# Altium integrated library TI Power Management Step-Down Regulator.IntLib: 565 symbols (part 4 of 33)
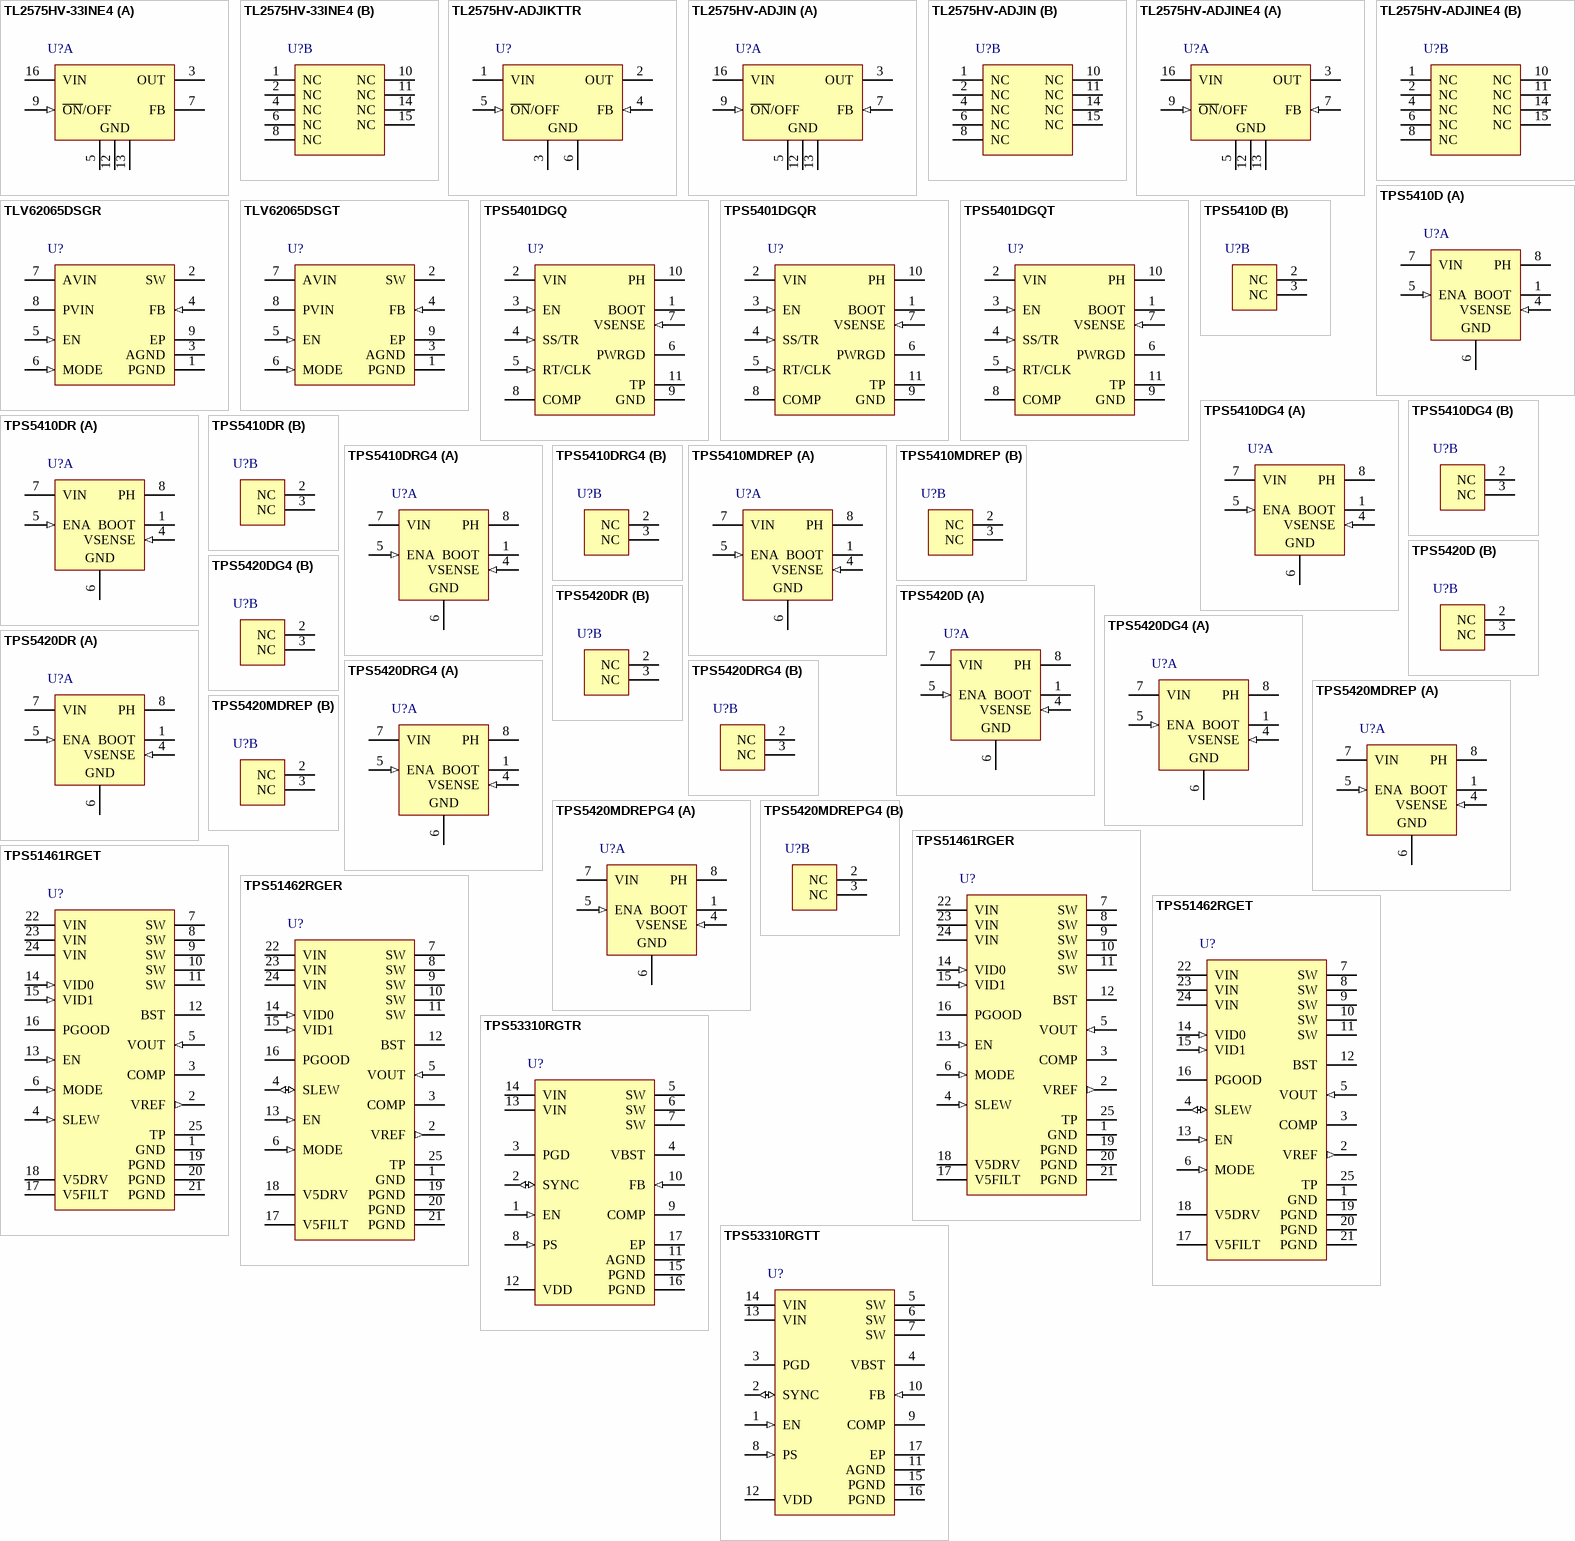
[diagram p22: symbols TL2575HV-33INE4 to TPS53310RGTT]

## TPS51462RGET
designator U?
D-CAP+Mode Step Down Regulator with 3.3 to 5 V Input and 0.5 to 2 V Output, -40 to 85 degC, 24-Pin VQFN (RGE), Green (RoHS & no Sb/Br); Manufacturer: Texas Instruments; PartNumber: TPS51462RGET; Duty Cycle(Max)(%): 84; Iout(Max)(A): 6; Rating: Catalog; Regulated Outputs(#): 1; SubFamily: Step-Down Regulator; Switch Current Limit(Typ)(A): 7.5; Vin(Max)(V): 5; Vin(Min)(V): 3.3; Vout(Max)(V): 2; Vout(Min)(V): 0.5; DatasheetVersion: SLUSAQ1; PackageVersion: revG, Jul-2011; PackageReference: RGE24-2100X2100TP; PackageDescription: 24-Pin Plastic Quad Flatpack No-Lead, 4 x 4 mm Body, 0.5 mm Pitch; Supplier 1: Digi-Key; Supplier Part Number 1: 296-30188-2-ND; Supplier 7: Mouser; Supplier Part Number 7: 595-TPS51462RGET; Eco-Plan: Green (RoHS & no Sb/Br); Topology: D-CAP+Mode; Mounting Technology: Surface Mount; Code_JEDEC: MO-220; ComponentLink1Description: Datasheet; ComponentLink1URL: http://www.ti.com/general/docs/lit/getliterature.tsp?genericPartNumber=TPS51462&fileType=pdf; ComponentLink2Description: Package Specification; ComponentLink2URL: http://www.ti.com/litv/pdf/mpqf124f; ComponentLink3Description: URL Link1; ComponentLink3URL: Samples URL:http://www.ti.com/product/tps54611#samples
footprint RGE24-2100X2100TP (QFN, 24-Leads, Body 4x4mm, Pitch 0.5mm, Thermal Pad 2.1x2.1mm, TI Recommended)
pins: 1 GND (power) "Power ground. Source terminal of the rectifying low-side power FET.", 2 VREF (out) "2.0-V reference output. Connect a 0.22-uF ceramic capacitor to GND.", 3 COMP "Connect series R-C to the VREF pin for loop compensation.", 4 SLEW (io) "Program the startup and voltage transition time using an external capacitor via 10-uA current source.", 5 VOUT (in) "Output voltage monitor input pin.", 6 MODE (in) "Allows selection of switching frequencies and output voltage. (See Table 3)", 7 SW (power) "Switching node output. Connect to the external inductor.", 8 SW (power) "Switching node output. Connect to the external inductor.", 9 SW (power) "Switching node output. Connect to the external inductor.", 10 SW (power) "Switching node output. Connect to the external inductor.", 11 SW (power) "Switching node output. Connect to the external inductor.", 12 BST (power) "Power supply for internal high-side gate driver. Connect a 0.1-uF bootstrap capacitor between this pin and the SW pin.", 13 EN (in) "Enable of the SMPS.", 14 VID0 (in) "2-bit VID input.", 15 VID1 (in) "2-bit VID input.", 16 PGOOD (oc) "Power good output. Connect pull-up resistor.", 17 V5FILT (power) "5-V power supply for analog circuits.", 18 V5DRV (power) "5-V power supply for the gate driver.", 19 PGND (power) "Power ground. Source terminal of the rectifying low-side power FET.", 20 PGND (power) "Power ground. Source terminal of the rectifying low-side power FET.", 21 PGND (power) "Power ground. Source terminal of the rectifying low-side power FET.", 22 VIN (power) "Power supply input pin. Drain terminal of the switching high-side power FET.", 23 VIN (power) "Power supply input pin. Drain terminal of the switching high-side power FET.", 24 VIN (power) "Power supply input pin. Drain terminal of the switching high-side power FET.", 25 TP (power) "Connect directly to system GND plane with multiple vias."

## TPS53310RGTR
designator U?
Buck Step Down Regulator with 2.9 to 6 V Input and 0.6 to 4.2 V Output, -40 to 85 degC, 16-Pin QFN (RGT), Green (RoHS & no Sb/Br); Manufacturer: Texas Instruments; PartNumber: TPS53310RGTR; Duty Cycle(Max)(%): 84; Iout(Max)(A): 3; Rating: Catalog; Regulated Outputs(#): 1; SubFamily: Step-Down Regulator; Switch Current Limit(Typ)(A): 4.2; Vin(Max)(V): 6; Vin(Min)(V): 2.9; Vout(Min)(V): 0.6; DatasheetVersion: SLUSA68; PackageVersion: revH, Oct-2011; PackageReference: RGT16-1650X1650TP; PackageDescription: 16-Pin Plastic Quad Flat No-Lead, 3 x 3 mm Body, 0.5 mm Pitch, 1.7 x 1.7 mm Exposed Pad; Supplier 1: Digi-Key; Supplier Part Number 1: TPS53310RGTR-ND; Eco-Plan: Green (RoHS & no Sb/Br); Topology: Buck; Vout(Max)(V): 4.2; Mounting Technology: Surface Mount; Code_JEDEC: MO-220; ComponentLink1Description: Datasheet; ComponentLink1URL: http://www.ti.com/general/docs/lit/getliterature.tsp?genericPartNumber=TPS53310&fileType=pdf; ComponentLink2Description: Package Specification; ComponentLink2URL: http://www.ti.com/litv/pdf/mpqf119g; ComponentLink3Description: URL Link1; ComponentLink3URL: Samples URL:http://www.ti.com/product/tps53310#samples
footprint RGT16-1650X1650TP (QFN, 16-Leads, Body 3x3mm, Pitch 0.5mm, Thermal Pad 1.7x1.7mm, TI Recommended)
pins: 1 EN (in) "Enable. Internally pulled up to VDD with a 1.35-Mohm resistor.", 2 SYNC (io) "Synchronization signal for input interleaving. Master SYNC pin sends out 180degrees out-of-phase signal to slave SYNC. SYNC frequency must be within +/-20% of slave nominal frequency.", 3 PGD (oc) "Power good output flag. Open drain output. Pull up to an external rail via a resistor.", 4 VBST (power) "Supply input for high-side MOSFET (bootstrap terminal). Connect capacitor from this pin to SW terminal.", 5 SW (power) "Output inductor connection to integrated power devices.", 6 SW (power) "Output inductor connection to integrated power devices.", 7 SW (power) "Output inductor connection to integrated power devices.", 8 PS (in) "Mode configuration pin (with 10 µA current): Connecting to ground: Forced CCM slave. Pulled high or floating (internal pulled high): Forced CCM master, Connect with 24.3 k ohm to GND: DE slave, Connect with 57.6 k ohm to (See Datasheet)", 9 COMP "Error amplifier compensation terminal. Type III compensation method is recommended for stability.", 10 FB (in) "Voltage feedback. Also used for OVP, UVP and PGD determination.", 11 AGND (power) "Device analog ground terminal.", 12 VDD (power) "Input bias supply for analog functions.", 13 VIN (power) "Gate driver supply and power conversion voltage.", 14 VIN (power) "Gate driver supply and power conversion voltage.", 15 PGND (power) "Power ground terminal.", 16 PGND (power) "Power ground terminal.", 17 EP (power) "Exposed Thermal Pad."

## TPS53310RGTT
designator U?
Buck Step Down Regulator with 2.9 to 6 V Input and 0.6 to 4.2 V Output, -40 to 85 degC, 16-Pin QFN (RGT), Green (RoHS & no Sb/Br); Manufacturer: Texas Instruments; PartNumber: TPS53310RGTT; Duty Cycle(Max)(%): 84; Iout(Max)(A): 3; Rating: Catalog; Regulated Outputs(#): 1; SubFamily: Step-Down Regulator; Switch Current Limit(Typ)(A): 4.2; Vin(Max)(V): 6; Vin(Min)(V): 2.9; Vout(Min)(V): 0.6; DatasheetVersion: SLUSA68; PackageVersion: revH, Oct-2011; PackageReference: RGT16-1650X1650TP; PackageDescription: 16-Pin Plastic Quad Flat No-Lead, 3 x 3 mm Body, 0.5 mm Pitch, 1.7 x 1.7 mm Exposed Pad; Supplier 1: Digi-Key; Supplier Part Number 1: 296-28100-2-ND; Eco-Plan: Green (RoHS & no Sb/Br); Topology: Buck; Vout(Max)(V): 4.2; Mounting Technology: Surface Mount; Code_JEDEC: MO-220; ComponentLink1Description: Datasheet; ComponentLink1URL: http://www.ti.com/general/docs/lit/getliterature.tsp?genericPartNumber=TPS53310&fileType=pdf; ComponentLink2Description: Package Specification; ComponentLink2URL: http://www.ti.com/litv/pdf/mpqf119g; ComponentLink3Description: URL Link1; ComponentLink3URL: Samples URL:http://www.ti.com/product/tps54611#samples
footprint RGT16-1650X1650TP (QFN, 16-Leads, Body 3x3mm, Pitch 0.5mm, Thermal Pad 1.7x1.7mm, TI Recommended)
pins: 1 EN (in) "Enable. Internally pulled up to VDD with a 1.35-Mohm resistor.", 2 SYNC (io) "Synchronization signal for input interleaving. Master SYNC pin sends out 180degrees out-of-phase signal to slave SYNC. SYNC frequency must be within +/-20% of slave nominal frequency.", 3 PGD (oc) "Power good output flag. Open drain output. Pull up to an external rail via a resistor.", 4 VBST (power) "Supply input for high-side MOSFET (bootstrap terminal). Connect capacitor from this pin to SW terminal.", 5 SW (power) "Output inductor connection to integrated power devices.", 6 SW (power) "Output inductor connection to integrated power devices.", 7 SW (power) "Output inductor connection to integrated power devices.", 8 PS (in) "Mode configuration pin (with 10 µA current): Connecting to ground: Forced CCM slave. Pulled high or floating (internal pulled high): Forced CCM master, Connect with 24.3 k ohm to GND: DE slave, Connect with 57.6 k ohm to (See Datasheet)", 9 COMP "Error amplifier compensation terminal. Type III compensation method is recommended for stability.", 10 FB (in) "Voltage feedback. Also used for OVP, UVP and PGD determination.", 11 AGND (power) "Device analog ground terminal.", 12 VDD (power) "Input bias supply for analog functions.", 13 VIN (power) "Gate driver supply and power conversion voltage.", 14 VIN (power) "Gate driver supply and power conversion voltage.", 15 PGND (power) "Power ground terminal.", 16 PGND (power) "Power ground terminal.", 17 EP (power) "Exposed Thermal Pad."

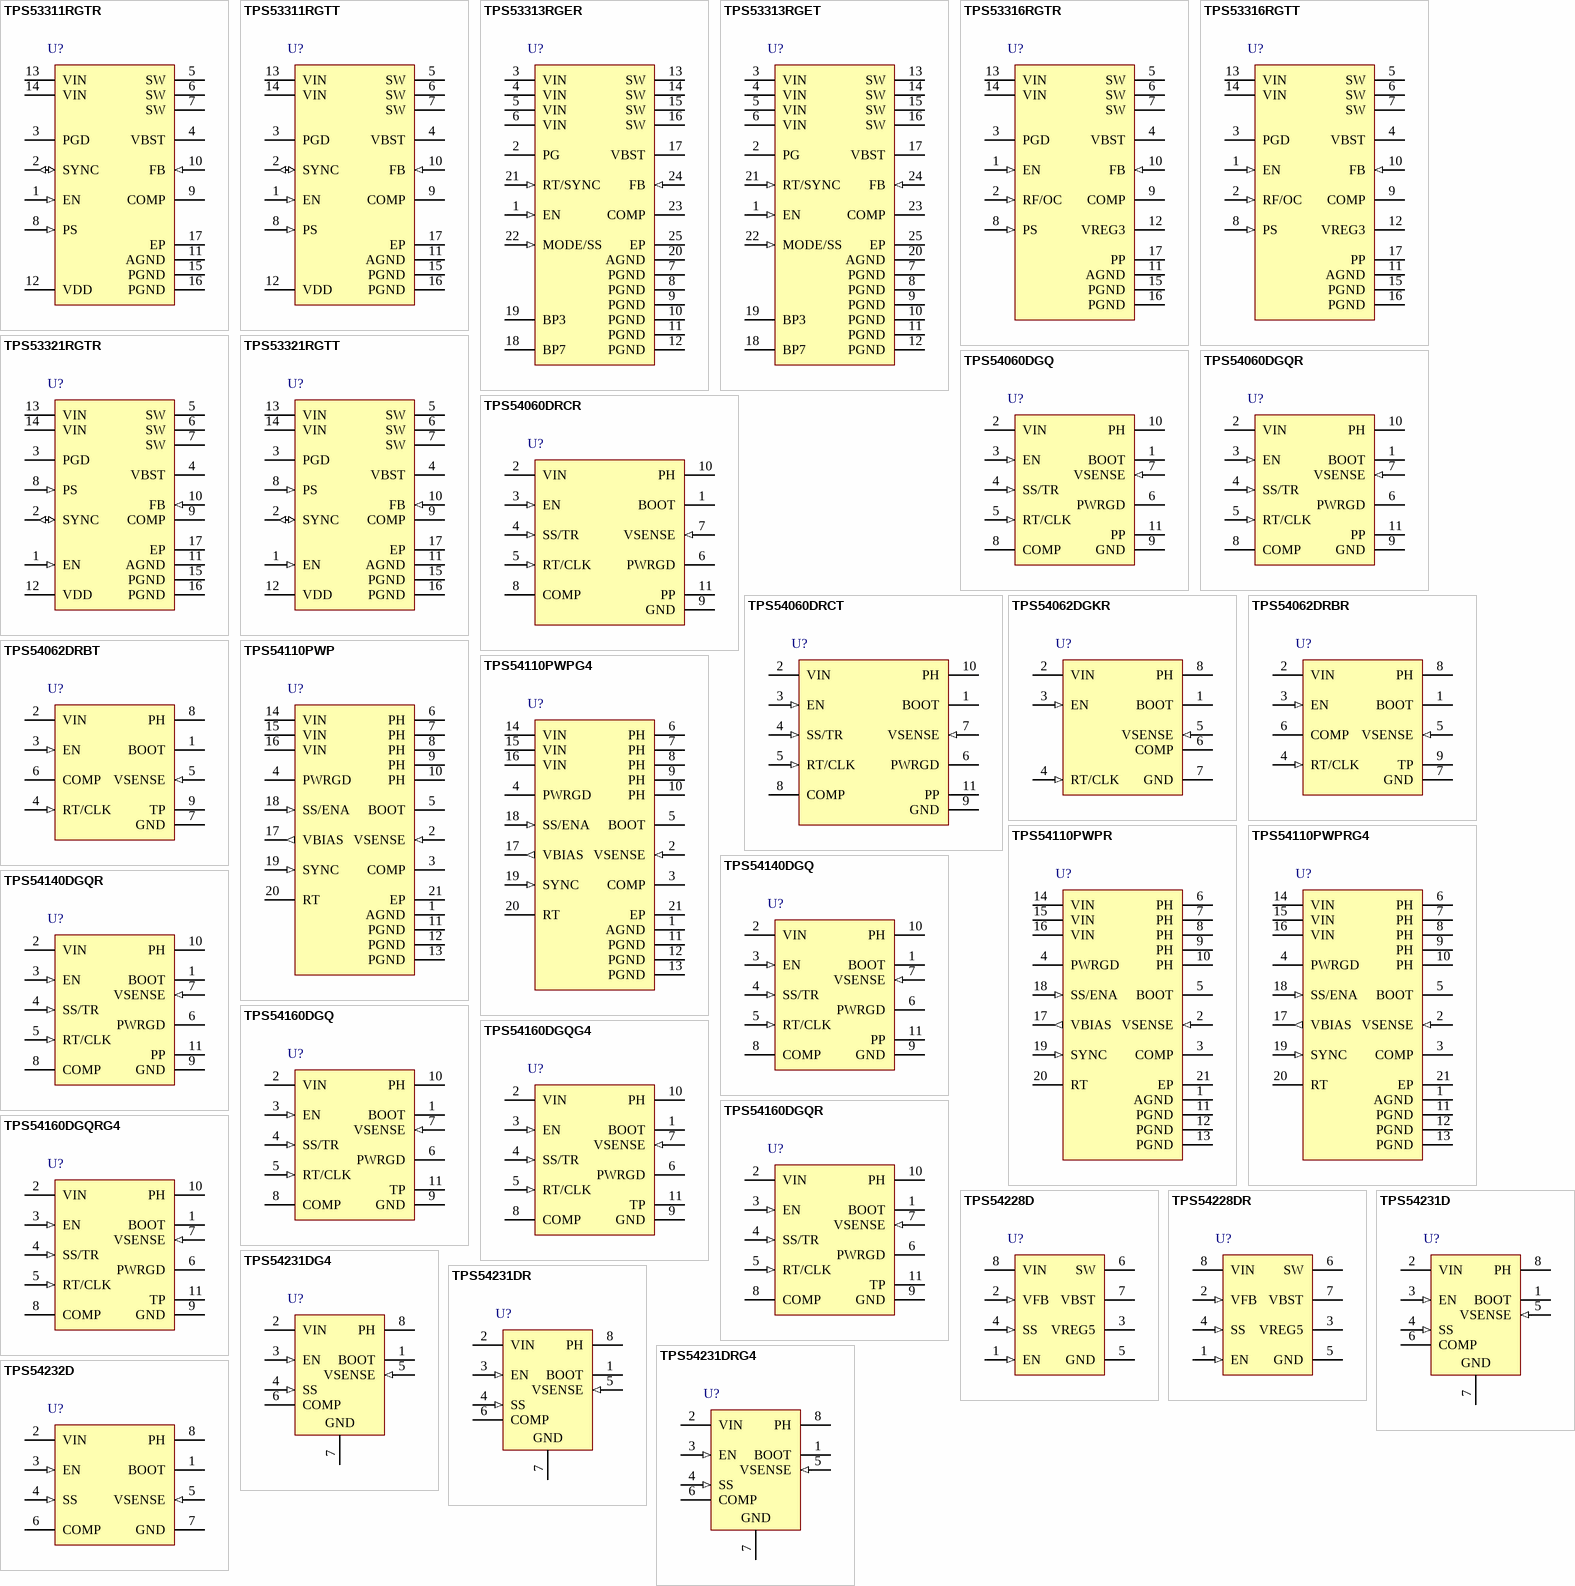
[diagram p3: symbols TPS53311RGTR to TPS54232D]

## TPS53311RGTR
designator U?
Buck Step Down Regulator with 2.9 to 6 V Input and 0.6 to 4.2 V Output, -40 to 85 degC, 16-Pin QFN (RGT), Green (RoHS & no Sb/Br); Manufacturer: Texas Instruments; PartNumber: TPS53311RGTR; Duty Cycle(Max)(%): 84; Iout(Max)(A): 3; Rating: Catalog; Regulated Outputs(#): 1; SubFamily: Step-Down Regulator; Switch Current Limit(Typ)(A): 4.2; Vin(Max)(V): 6; Vin(Min)(V): 2.9; Vout(Min)(V): 0.6; DatasheetVersion: SLUSA41A; PackageVersion: revH, Oct-2011; PackageReference: RGT16-1650X1650TP; PackageDescription: 16-Pin Plastic Quad Flat No-Lead, 3 x 3 mm Body, 0.5 mm Pitch, 1.7 x 1.7 mm Exposed Pad; Supplier 1: Digi-Key; Supplier Part Number 1: TPS53311RGTR-ND; Eco-Plan: Green (RoHS & no Sb/Br); Topology: Buck; Vout(Max)(V): 4.2; Mounting Technology: Surface Mount; Code_JEDEC: MO-220; ComponentLink1Description: Datasheet; ComponentLink1URL: http://www.ti.com/general/docs/lit/getliterature.tsp?genericPartNumber=TPS53311&fileType=pdf; ComponentLink2Description: Package Specification; ComponentLink2URL: http://www.ti.com/litv/pdf/mpqf119g; ComponentLink3Description: URL Link1; ComponentLink3URL: Samples URL:http://www.ti.com/product/tps53311#samples
footprint RGT16-1650X1650TP (QFN, 16-Leads, Body 3x3mm, Pitch 0.5mm, Thermal Pad 1.7x1.7mm, TI Recommended)
pins: 1 EN (in) "Enable. Internally pulled up to VDD with a 1.35-Mohm resistor.", 2 SYNC (io) "Synchronization signal for input interleaving. Master SYNC pin sends out 180degrees out-of-phase signal to slave SYNC.SYNC frequency must be within +/-20% of slave nominal frequency.", 3 PGD (oc) "Power good output flag. Open drain output. Pull up to an external rail via a resistor.", 4 VBST (power) "Supply input for high-side MOSFET (bootstrap terminal). Connect capacitor from this pin to SW terminal.", 5 SW (power) "Output inductor connection to integrated power devices.", 6 SW (power) "Output inductor connection to integrated power devices.", 7 SW (power) "Output inductor connection to integrated power devices.", 8 PS (in) "Mode configuration pin (with 10 uA current): Connecting to ground: Forced CCM slave Pulled high or floating (internal pulled high): Forced CCM master Connect with 24.3 k ohm to GND: DE slave Connect with 57.6 k ohm to GND: (See Datasheet)", 9 COMP "Error amplifier compensation terminal. Type III compensation method is recommended for stability.", 10 FB (in) "Voltage feedback. Also used for OVP, UVP and PGD determination.", 11 AGND (power) "Device analog ground terminal.", 12 VDD (power) "Input bias supply for analog functions.", 13 VIN (power) "Gate driver supply and power conversion voltage.", 14 VIN (power) "Gate driver supply and power conversion voltage.", 15 PGND (power) "IC power GND terminal.", 16 PGND (power) "IC power GND terminal.", 17 EP (power) "Exposed pad"

## TPS53311RGTT
designator U?
Buck Step Down Regulator with 2.9 to 6 V Input and 0.6 to 4.2 V Output, -40 to 85 degC, 16-Pin QFN (RGT), Green (RoHS & no Sb/Br); Manufacturer: Texas Instruments; PartNumber: TPS53311RGTT; Duty Cycle(Max)(%): 84; Iout(Max)(A): 3; Rating: Catalog; Regulated Outputs(#): 1; SubFamily: Step-Down Regulator; Switch Current Limit(Typ)(A): 4.2; Vin(Max)(V): 6; Vin(Min)(V): 2.9; Vout(Min)(V): 0.6; DatasheetVersion: SLUSA41A; PackageVersion: revH, Oct-2011; PackageReference: RGT16-1650X1650TP; PackageDescription: 16-Pin Plastic Quad Flat No-Lead, 3 x 3 mm Body, 0.5 mm Pitch, 1.7 x 1.7 mm Exposed Pad; Supplier 1: Digi-Key; Supplier Part Number 1: 296-27604-2-ND; Eco-Plan: Green (RoHS & no Sb/Br); Topology: Buck; Vout(Max)(V): 4.2; Mounting Technology: Surface Mount; Code_JEDEC: MO-220; ComponentLink1Description: Datasheet; ComponentLink1URL: http://www.ti.com/general/docs/lit/getliterature.tsp?genericPartNumber=TPS53311&fileType=pdf; ComponentLink2Description: Package Specification; ComponentLink2URL: http://www.ti.com/litv/pdf/mpqf119g; ComponentLink3Description: URL Link1; ComponentLink3URL: Samples URL:http://www.ti.com/product/tps54611#samples
footprint RGT16-1650X1650TP (QFN, 16-Leads, Body 3x3mm, Pitch 0.5mm, Thermal Pad 1.7x1.7mm, TI Recommended)
pins: 1 EN (in) "Enable. Internally pulled up to VDD with a 1.35-Mohm resistor.", 2 SYNC (io) "Synchronization signal for input interleaving. Master SYNC pin sends out 180degrees out-of-phase signal to slave SYNC.SYNC frequency must be within +/-20% of slave nominal frequency.", 3 PGD (oc) "Power good output flag. Open drain output. Pull up to an external rail via a resistor.", 4 VBST (power) "Supply input for high-side MOSFET (bootstrap terminal). Connect capacitor from this pin to SW terminal.", 5 SW (power) "Output inductor connection to integrated power devices.", 6 SW (power) "Output inductor connection to integrated power devices.", 7 SW (power) "Output inductor connection to integrated power devices.", 8 PS (in) "Mode configuration pin (with 10 uA current): Connecting to ground: Forced CCM slave Pulled high or floating (internal pulled high): Forced CCM master Connect with 24.3 k ohm to GND: DE slave Connect with 57.6 k ohm to GND: (See Datasheet)", 9 COMP "Error amplifier compensation terminal. Type III compensation method is recommended for stability.", 10 FB (in) "Voltage feedback. Also used for OVP, UVP and PGD determination.", 11 AGND (power) "Device analog ground terminal.", 12 VDD (power) "Input bias supply for analog functions.", 13 VIN (power) "Gate driver supply and power conversion voltage.", 14 VIN (power) "Gate driver supply and power conversion voltage.", 15 PGND (power) "IC power GND terminal.", 16 PGND (power) "IC power GND terminal.", 17 EP (power) "Exposed pad"

## TPS53313RGER
designator U?
Step Down Regulator with 4.5 to 16 V Input, -40 to 85 degC, 24-Pin VQFN (RGE), Green (RoHS & no Sb/Br); Manufacturer: Texas Instruments; PartNumber: TPS53313RGER; Iout(Max)(A): 6; Rating: Catalog; SubFamily: Step-Down Regulator; Synchronous Rectification: TRUE; Vin(Max)(V): 16; Vin(Min)(V): 4.5; DatasheetVersion: SLUSAS8; PackageVersion: revG, Jul-2011; PackageReference: RGE24-2450X2450TP; PackageDescription: 24-Pin Plastic Quad Flatpack No-Lead, 4 x 4 mm Body, 0.5 mm Pitch; Supplier 1: Digi-Key; Supplier Part Number 1: TPS53313RGER-ND; Eco-Plan: Green (RoHS & no Sb/Br); Mounting Technology: Surface Mount; Code_JEDEC: MO-220; ComponentLink1Description: Datasheet; ComponentLink1URL: http://www.ti.com/general/docs/lit/getliterature.tsp?genericPartNumber=TPS53313&fileType=pdf; ComponentLink2Description: Package Specification; ComponentLink2URL: http://www.ti.com/litv/pdf/mpqf124f; ComponentLink3Description: URL Link1; ComponentLink3URL: Samples URL:http://www.ti.com/product/tps53313#samples
footprint RGE24-2450X2450TP (QFN, 24-Leads, Body 4x4mm, Pitch 0.5mm, Thermal Pad 2.45x2.45mm, TI Recommended)
pins: 1 EN (in) "Enable pin.", 2 PG (oc) "Power good output flag. Open drain output. Pull up to an external rail via a resistor", 3 VIN (power) "Gate driver supply and power conversion voltage.", 4 VIN (power) "Gate driver supply and power conversion voltage.", 5 VIN (power) "Gate driver supply and power conversion voltage.", 6 VIN (power) "Gate driver supply and power conversion voltage.", 7 PGND (power) "Device power ground terminal", 8 PGND (power) "Device power ground terminal", 9 PGND (power) "Device power ground terminal", 10 PGND (power) "Device power ground terminal", 11 PGND (power) "Device power ground terminal", 12 PGND (power) "Device power ground terminal", 13 SW (power) "Output inductor connection to integrated power devices", 14 SW (power) "Output inductor connection to integrated power devices", 15 SW (power) "Output inductor connection to integrated power devices", 16 SW (power) "Output inductor connection to integrated power devices", 17 VBST (power) "Supply input for high-side MOSFET (bootstrap terminal). Connect capacitor from this pin to SW terminal", 18 BP7 (power) "Bias for internal circuitry and driver", 19 BP3 (power) "Input bias supply for analog functions", 20 AGND (power) "Device analog ground terminal", 21 RT/SYNC (in) "Synchronized to external clock. Program the switching frequency by connecting with a resistor to GND.", 22 MODE/SS (in) "Mode configuration pin. Connect with a resistor to GND sets different modes and soft-start time, parallel a capacitor (or no capacitor) with the resistor changes the current limit threshold.", 23 COMP "Error amplifier compensation terminal. Type III compensation method is generally recommended for stability.", 24 FB (in) "Voltage feedback pin. Use for OVP, UVP and power good determination", 25 EP (power) "Exposed Thermal Pad"

## TPS53313RGET
designator U?
Step Down Regulator with 4.5 to 16 V Input, -40 to 85 degC, 24-Pin VQFN (RGE), Green (RoHS & no Sb/Br); Manufacturer: Texas Instruments; PartNumber: TPS53313RGET; Iout(Max)(A): 6; Rating: Catalog; SubFamily: Step-Down Regulator; Synchronous Rectification: TRUE; Vin(Max)(V): 16; Vin(Min)(V): 4.5; DatasheetVersion: SLUSAS8; PackageVersion: revG, Jul-2011; PackageReference: RGE24-2450X2450TP; PackageDescription: 24-Pin Plastic Quad Flatpack No-Lead, 4 x 4 mm Body, 0.5 mm Pitch; Supplier 1: Digi-Key; Supplier Part Number 1: 296-30176-2-ND; Supplier 7: Mouser; Supplier Part Number 7: 595-TPS53313RGET; Eco-Plan: Green (RoHS & no Sb/Br); Mounting Technology: Surface Mount; Code_JEDEC: MO-220; ComponentLink1Description: Datasheet; ComponentLink1URL: http://www.ti.com/general/docs/lit/getliterature.tsp?genericPartNumber=TPS53313&fileType=pdf; ComponentLink2Description: Package Specification; ComponentLink2URL: http://www.ti.com/litv/pdf/mpqf124f; ComponentLink3Description: URL Link1; ComponentLink3URL: Samples URL:http://www.ti.com/product/tps54611#samples
footprint RGE24-2450X2450TP (QFN, 24-Leads, Body 4x4mm, Pitch 0.5mm, Thermal Pad 2.45x2.45mm, TI Recommended)
pins: 1 EN (in) "Enable pin.", 2 PG (oc) "Power good output flag. Open drain output. Pull up to an external rail via a resistor", 3 VIN (power) "Gate driver supply and power conversion voltage.", 4 VIN (power) "Gate driver supply and power conversion voltage.", 5 VIN (power) "Gate driver supply and power conversion voltage.", 6 VIN (power) "Gate driver supply and power conversion voltage.", 7 PGND (power) "Device power ground terminal", 8 PGND (power) "Device power ground terminal", 9 PGND (power) "Device power ground terminal", 10 PGND (power) "Device power ground terminal", 11 PGND (power) "Device power ground terminal", 12 PGND (power) "Device power ground terminal", 13 SW (power) "Output inductor connection to integrated power devices", 14 SW (power) "Output inductor connection to integrated power devices", 15 SW (power) "Output inductor connection to integrated power devices", 16 SW (power) "Output inductor connection to integrated power devices", 17 VBST (power) "Supply input for high-side MOSFET (bootstrap terminal). Connect capacitor from this pin to SW terminal", 18 BP7 (power) "Bias for internal circuitry and driver", 19 BP3 (power) "Input bias supply for analog functions", 20 AGND (power) "Device analog ground terminal", 21 RT/SYNC (in) "Synchronized to external clock. Program the switching frequency by connecting with a resistor to GND.", 22 MODE/SS (in) "Mode configuration pin. Connect with a resistor to GND sets different modes and soft-start time, parallel a capacitor (or no capacitor) with the resistor changes the current limit threshold.", 23 COMP "Error amplifier compensation terminal. Type III compensation method is generally recommended for stability.", 24 FB (in) "Voltage feedback pin. Use for OVP, UVP and power good determination", 25 EP (power) "Exposed Thermal Pad"

## TPS53316RGTR
designator U?
Buck Step Down Regulator with 2.9 to 6 V Input and 0.6 to 4.2 V Output, -40 to 85 degC, 16-Pin QFN (RGT), Green (RoHS & no Sb/Br); Manufacturer: Texas Instruments; PartNumber: TPS53316RGTR; Duty Cycle(Max)(%): 84; Iout(Max)(A): 5; Iq(Typ)(mA): 2; Rating: Catalog; SubFamily: Step-Down Regulator; Synchronous Rectification: TRUE; Vin(Max)(V): 6; Vin(Min)(V): 2.9; Vout(Max)(V): 4.2; Vout(Min)(V): 0.6; DatasheetVersion: SLUSAP5; PackageVersion: revH, Oct-2011; PackageReference: RGT16-1650X1650TP; PackageDescription: 16-Pin Plastic Quad Flat No-Lead, 3 x 3 mm Body, 0.5 mm Pitch, 1.7 x 1.7 mm Exposed Pad; Supplier 1: Digi-Key; Supplier Part Number 1: 296-30206-2-ND; Supplier 7: Mouser; Supplier Part Number 7: 595-TPS53316RGTR; Eco-Plan: Green (RoHS & no Sb/Br); Mounting Technology: Surface Mount; Code_JEDEC: MO-220; ComponentLink1Description: Datasheet; ComponentLink1URL: http://www.ti.com/general/docs/lit/getliterature.tsp?genericPartNumber=TPS53316&fileType=pdf; ComponentLink2Description: Package Specification; ComponentLink2URL: http://www.ti.com/litv/pdf/mpqf119g; ComponentLink3Description: URL Link1; ComponentLink3URL: Samples URL:http://www.ti.com/product/tps53316#samples
footprint RGT16-1650X1650TP (QFN, 16-Leads, Body 3x3mm, Pitch 0.5mm, Thermal Pad 1.7x1.7mm, TI Recommended)
pins: 1 EN (in) "Enable pin. Internally pulled-up to the VIN pin through a 2-Mohm resistor. The EN voltage needs to be less than (Vin+0.5V)", 2 RF/OC (in) "Switching frequency and OC level configuration pin: Connecting to ground: 1.1 MHz, 6.5 A OCP Pulled high or floating (internal pulled high): 1.1 MHz, 4.5 A OCP Connect with 24.3 k ohm to GND: 750 kHz, 4.5 A OCP Connect with (See Datasheet)", 3 PGD (oc) "Power good output flag. Open drain output. Pull up to an external rail via a resistor", 4 VBST (power) "Supply input for high-side MOSFET (bootstrap terminal). Connect capacitor from this pin to SW terminal", 5 SW (power) "Output inductor connection to integrated power devices", 6 SW (power) "Output inductor connection to integrated power devices", 7 SW (power) "Output inductor connection to integrated power devices", 8 PS (in) "Mode configuration pin (with10 uA current): Connecting to ground: Forced CCM with 4 x soft-start time Pulled high or floating (internal pulled high): Forced CCM master Connect with 24.3 ohm to GND: HEF mode with 4 x (See Datasheet)", 9 COMP "Error amplifier compensation terminal. Type III compensation method is generally recommended for stability.", 10 FB (in) "Voltage feedback pin. Use for OVP, UVP and PGD determination", 11 AGND (power) "Device analog ground terminal", 12 VREG3 (power) "3.3V LDO output, serves as supply voltage for internal analog circuitry. The EN pin controls the turn-on function of the LDO.", 13 VIN (power) "Gate driver supply and power conversion input voltage. The input range is from 2.9 V to 6 V.", 14 VIN (power) "Gate driver supply and power conversion input voltage. The input range is from 2.9 V to 6 V.", 15 PGND (power) "Device power ground termina", 16 PGND (power) "Device power ground termina", 17 PP (power) "Thermal pad of the device. use 4 or 5 vias to connect to GND plane for heat dissipation."

## TPS53316RGTT
designator U?
Buck Step Down Regulator with 2.9 to 6 V Input and 0.6 to 4.2 V Output, -40 to 85 degC, 16-Pin QFN (RGT), Green (RoHS & no Sb/Br); Manufacturer: Texas Instruments; PartNumber: TPS53316RGTT; Duty Cycle(Max)(%): 84; Iout(Max)(A): 5; Iq(Typ)(mA): 2; Rating: Catalog; SubFamily: Step-Down Regulator; Synchronous Rectification: TRUE; Vin(Max)(V): 6; Vin(Min)(V): 2.9; Vout(Max)(V): 4.2; Vout(Min)(V): 0.6; DatasheetVersion: SLUSAP5; PackageVersion: revH, Oct-2011; PackageReference: RGT16-1650X1650TP; PackageDescription: 16-Pin Plastic Quad Flat No-Lead, 3 x 3 mm Body, 0.5 mm Pitch, 1.7 x 1.7 mm Exposed Pad; Supplier 1: Digi-Key; Supplier Part Number 1: 296-30177-2-ND; Supplier 7: Mouser; Supplier Part Number 7: 595-TPS53316RGTT; Eco-Plan: Green (RoHS & no Sb/Br); Topology: Buck; Mounting Technology: Surface Mount; Code_JEDEC: MO-220; ComponentLink1Description: Datasheet; ComponentLink1URL: http://www.ti.com/general/docs/lit/getliterature.tsp?genericPartNumber=TPS53316&fileType=pdf; ComponentLink2Description: Package Specification; ComponentLink2URL: http://www.ti.com/litv/pdf/mpqf119g; ComponentLink3Description: URL Link1; ComponentLink3URL: Samples URL:http://www.ti.com/product/tps54611#samples
footprint RGT16-1650X1650TP (QFN, 16-Leads, Body 3x3mm, Pitch 0.5mm, Thermal Pad 1.7x1.7mm, TI Recommended)
pins: 1 EN (in) "Enable pin. Internally pulled-up to the VIN pin through a 2-Mohm resistor. The EN voltage needs to be less than (Vin+0.5V)", 2 RF/OC (in) "Switching frequency and OC level configuration pin: Connecting to ground: 1.1 MHz, 6.5 A OCP Pulled high or floating (internal pulled high): 1.1 MHz, 4.5 A OCP Connect with 24.3 k ohm to GND: 750 kHz, 4.5 A OCP Connect with (See Datasheet)", 3 PGD (oc) "Power good output flag. Open drain output. Pull up to an external rail via a resistor", 4 VBST (power) "Supply input for high-side MOSFET (bootstrap terminal). Connect capacitor from this pin to SW terminal", 5 SW (power) "Output inductor connection to integrated power devices", 6 SW (power) "Output inductor connection to integrated power devices", 7 SW (power) "Output inductor connection to integrated power devices", 8 PS (in) "Mode configuration pin (with10 uA current): Connecting to ground: Forced CCM with 4 x soft-start time Pulled high or floating (internal pulled high): Forced CCM master Connect with 24.3 ohm to GND: HEF mode with 4 x (See Datasheet)", 9 COMP "Error amplifier compensation terminal. Type III compensation method is generally recommended for stability.", 10 FB (in) "Voltage feedback pin. Use for OVP, UVP and PGD determination", 11 AGND (power) "Device analog ground terminal", 12 VREG3 (power) "3.3V LDO output, serves as supply voltage for internal analog circuitry. The EN pin controls the turn-on function of the LDO.", 13 VIN (power) "Gate driver supply and power conversion input voltage. The input range is from 2.9 V to 6 V.", 14 VIN (power) "Gate driver supply and power conversion input voltage. The input range is from 2.9 V to 6 V.", 15 PGND (power) "Device power ground termina", 16 PGND (power) "Device power ground termina", 17 PP (power) "Thermal pad of the device. use 4 or 5 vias to connect to GND plane for heat dissipation."

## TPS53321RGTR
designator U?
Buck Step Down Regulator with 2.9 to 6 V Input and 0.6 to 4.2 V Output, -40 to 85 degC, 16-Pin QFN (RGT), Green (RoHS & no Sb/Br); Manufacturer: Texas Instruments; PartNumber: TPS53321RGTR; Duty Cycle(Max)(%): 84; Iout(Max)(A): 5; Rating: Catalog; Regulated Outputs(#): 1; SubFamily: Step-Down Regulator; Switch Current Limit(Typ)(A): 6; Vin(Min)(V): 2.9; Vout(Max)(V): 4.2; Vout(Min)(V): 0.6; DatasheetVersion: SLUSAF3; PackageVersion: revH, Oct-2011; PackageReference: RGT16-1650X1650TP; PackageDescription: 16-Pin Plastic Quad Flat No-Lead, 3 x 3 mm Body, 0.5 mm Pitch, 1.7 x 1.7 mm Exposed Pad; Supplier 1: Digi-Key; Supplier Part Number 1: 296-28101-2-ND; Eco-Plan: Green (RoHS & no Sb/Br); Topology: Buck; Vin(Max)(V): 6; Mounting Technology: Surface Mount; Code_JEDEC: MO-220; ComponentLink1Description: Datasheet; ComponentLink1URL: http://www.ti.com/general/docs/lit/getliterature.tsp?genericPartNumber=TPS53321&fileType=pdf; ComponentLink2Description: Package Specification; ComponentLink2URL: http://www.ti.com/litv/pdf/mpqf119g; ComponentLink3Description: URL Link1; ComponentLink3URL: Samples URL:http://www.ti.com/product/tps53321#samples
footprint RGT16-1650X1650TP (QFN, 16-Leads, Body 3x3mm, Pitch 0.5mm, Thermal Pad 1.7x1.7mm, TI Recommended)
pins: 1 EN (in) "Enable. Internally pulled up to VDD with a 1.35-Mohm resistor.", 2 SYNC (io) "Synchronization signal for input interleaving. Master SYNC pin sends out 180degrees out-of-phase signal to slave SYNC. SYNC frequency must be within +/-20% of slave nominal frequency.", 3 PGD (oc) "Power good output flag. Open drain output. Pull up to an external rail via a resistor.", 4 VBST (power) "Supply input for high-side MOSFET (bootstrap terminal). Connect capacitor from this pin to SW terminal.", 5 SW (power) "Output inductor connection to integrated power devices.", 6 SW (power) "Output inductor connection to integrated power devices.", 7 SW (power) "Output inductor connection to integrated power devices.", 8 PS (in) "Mode configuration pin (with 10 uA current): Connecting to ground: FCCM slave Pulled high or floating (internal pulled high): FCCM master Connect a 24.3-k ohm resistor to GND: DE slave Connect a 57.6-k ohm resistor to GND: (See Datasheet)", 9 COMP "Error amplifier compensation terminal. Type III compensation method is recommended for stability.", 10 FB (in) "Voltage feedback. Also used for OVP, UVP and PGD determination.", 11 AGND (power) "Device analog ground terminal.", 12 VDD (power) "Input bias supply for analog functions.", 13 VIN (power) "Gate driver supply and power conversion voltage input.", 14 VIN (power) "Gate driver supply and power conversion voltage input.", 15 PGND (power) "IC power GND terminal.", 16 PGND (power) "IC power GND terminal.", 17 EP (power) "Exposed Pad"

## TPS53321RGTT
designator U?
Buck Step Down Regulator with 2.9 to 6 V Input and 0.6 to 4.2 V Output, -40 to 85 degC, 16-Pin QFN (RGT), Green (RoHS & no Sb/Br); Manufacturer: Texas Instruments; PartNumber: TPS53321RGTT; Duty Cycle(Max)(%): 84; Iout(Max)(A): 5; Rating: Catalog; Regulated Outputs(#): 1; SubFamily: Step-Down Regulator; Switch Current Limit(Typ)(A): 6; Vin(Min)(V): 2.9; Vout(Max)(V): 4.2; Vout(Min)(V): 0.6; DatasheetVersion: SLUSAF3; PackageVersion: revH, Oct-2011; PackageReference: RGT16-1650X1650TP; PackageDescription: 16-Pin Plastic Quad Flat No-Lead, 3 x 3 mm Body, 0.5 mm Pitch, 1.7 x 1.7 mm Exposed Pad; Supplier 1: Digi-Key; Supplier Part Number 1: TPS53321RGTT-ND; Eco-Plan: Green (RoHS & no Sb/Br); Topology: Buck; Vin(Max)(V): 6; Mounting Technology: Surface Mount; Code_JEDEC: MO-220; ComponentLink1Description: Datasheet; ComponentLink1URL: http://www.ti.com/general/docs/lit/getliterature.tsp?genericPartNumber=TPS53321&fileType=pdf; ComponentLink2Description: Package Specification; ComponentLink2URL: http://www.ti.com/litv/pdf/mpqf119g; ComponentLink3Description: URL Link1; ComponentLink3URL: Samples URL:http://www.ti.com/product/tps54611#samples
footprint RGT16-1650X1650TP (QFN, 16-Leads, Body 3x3mm, Pitch 0.5mm, Thermal Pad 1.7x1.7mm, TI Recommended)
pins: 1 EN (in) "Enable. Internally pulled up to VDD with a 1.35-Mohm resistor.", 2 SYNC (io) "Synchronization signal for input interleaving. Master SYNC pin sends out 180degrees out-of-phase signal to slave SYNC. SYNC frequency must be within +/-20% of slave nominal frequency.", 3 PGD (oc) "Power good output flag. Open drain output. Pull up to an external rail via a resistor.", 4 VBST (power) "Supply input for high-side MOSFET (bootstrap terminal). Connect capacitor from this pin to SW terminal.", 5 SW (power) "Output inductor connection to integrated power devices.", 6 SW (power) "Output inductor connection to integrated power devices.", 7 SW (power) "Output inductor connection to integrated power devices.", 8 PS (in) "Mode configuration pin (with 10 uA current): Connecting to ground: FCCM slave Pulled high or floating (internal pulled high): FCCM master Connect a 24.3-k ohm resistor to GND: DE slave Connect a 57.6-k ohm resistor to GND: (See Datasheet)", 9 COMP "Error amplifier compensation terminal. Type III compensation method is recommended for stability.", 10 FB (in) "Voltage feedback. Also used for OVP, UVP and PGD determination.", 11 AGND (power) "Device analog ground terminal.", 12 VDD (power) "Input bias supply for analog functions.", 13 VIN (power) "Gate driver supply and power conversion voltage input.", 14 VIN (power) "Gate driver supply and power conversion voltage input.", 15 PGND (power) "IC power GND terminal.", 16 PGND (power) "IC power GND terminal.", 17 EP (power) "Exposed Pad"

## TPS54060DGQ
designator U?
Buck Inverting Buck-Boost Step Down Regulator with 3.5 to 60 V Input and 0.8 to 58 V Output, -40 to 150 degC, 10-Pin MSOP-PowerPAD (DGQ), Green (RoHS & no Sb/Br); Manufacturer: Texas Instruments; PartNumber: TPS54060DGQ; Duty Cycle(Max)(%): 98; Iout(Max)(A): 0.5; Iq(Typ)(mA): 0.116; Rating: Catalog; Regulated Outputs(#): 1; SubFamily: Step-Down Regulator; Switch Current Limit(Typ)(A): 0.6; Topology: Buck, Inverting Buck-Boost; Vin(Max)(V): 60; Vin(Min)(V): 3.5; Vout(Max)(V): 58; Vout(Min)(V): 0.8; DatasheetVersion: SLVS919A; PackageVersion: revF, Nov-2011; PackageReference: DGQ10-1675X1445TP; PackageDescription: 10-Pin PowerPAD Plastic Small Outline 0.5 mm Pitch, Exposed Pad; Supplier 1: Digi-Key; Supplier Part Number 1: 296-24212-5-ND; Eco-Plan: Green (RoHS & no Sb/Br); Mounting Technology: Surface Mount; Code_JEDEC: MO-187-BA-T; ComponentLink1Description: Datasheet; ComponentLink1URL: http://www.ti.com/general/docs/lit/getliterature.tsp?genericPartNumber=TPS54060&fileType=pdf; ComponentLink2Description: Package Specification; ComponentLink2URL: http://www.ti.com/lit/ml/mpds043e/mpds043e.pdf; ComponentLink3Description: URL Link1; ComponentLink3URL: Samples URL:http://www.ti.com/product/tps54060#samples
footprint DGQ10-1675X1445TP_N (TSSOP, 10-Leads, Body 3x3mm, Pitch 0.5mm, Thermal Pad 1.88x1.57mm, IPC Medium Density)
footprint DGQ10-1675X1445TP_L (TSSOP, 10-Leads, Body 3x3mm, Pitch 0.5mm, Thermal Pad 1.88x1.57mm, IPC High Density)
footprint DGQ10-1675X1445TP_M (TSSOP, 10-Leads, Body 3x3mm, Pitch 0.5mm, Thermal Pad 1.88x1.57mm, IPC Low Density)
pins: 1 BOOT "A bootstrap capacitor is required between BOOT and PH.if the voltage on this capacitor is below the minimum required by the output device, the output is forced to switch off until the capacitor is refreshed.", 2 VIN (power) "Input supply voltage, 3.5 V to 60 V.", 3 EN (in) "Enable pin,internal pull-up current source.Pull below 1.2V to disable. Float to enable. Adjust the input undervoltage lockout with two resistors.", 4 SS/TR (in) "Slow-start and Tracking .AN external capacitor connected to this pin sets the output rise time. Since the voltage on this pin overrides the inernal reference, it can be used for tracking and sequencing.", 5 RT/CLK (in) "Resistor Timing and External Clock. An internal amplifier holds this pin at a fixed voltage when using an external resistor to ground to set the switching frequency. If the pin is pulled above the PLL upper threshold,a mode (See Datasheet)", 6 PWRGD (oc) "An open drain output, asserts low if output voltage is low due to thermal shutdown, dropout, over-voltage or EN shut down.", 7 VSENSE (in) "Inverting node of the transconductance ( gm) error amplifier.", 8 COMP "Error amplifier output,and input to the output switch current comparator. Connect frequency compensation components to this pin.", 9 GND (power) "Ground", 10 PH (power) "The source of the internal high-side power MOSFET.", 11 PP (power) "GND pin must be electrically connected to the exposed pad on the printed circuit board for proper operation."

## TPS54060DGQR
designator U?
Buck Inverting Buck-Boost Step Down Regulator with 3.5 to 60 V Input and 0.8 to 58 V Output, -40 to 150 degC, 10-Pin MSOP-PowerPAD (DGQ), Green (RoHS & no Sb/Br); Manufacturer: Texas Instruments; PartNumber: TPS54060DGQR; Duty Cycle(Max)(%): 98; Iout(Max)(A): 0.5; Iq(Typ)(mA): 0.116; Rating: Catalog; Regulated Outputs(#): 1; SubFamily: Step-Down Regulator; Switch Current Limit(Typ)(A): 0.6; Topology: Buck, Inverting Buck-Boost; Vin(Max)(V): 60; Vin(Min)(V): 3.5; Vout(Max)(V): 58; Vout(Min)(V): 0.8; DatasheetVersion: SLVS919A; PackageVersion: revF, Nov-2011; PackageReference: DGQ10-1675X1445TP; PackageDescription: 10-Pin PowerPAD Plastic Small Outline 0.5 mm Pitch, Exposed Pad; Supplier 1: Digi-Key; Supplier Part Number 1: TPS54060DGQR-ND; Eco-Plan: Green (RoHS & no Sb/Br); Mounting Technology: Surface Mount; Code_JEDEC: MO-187-BA-T; ComponentLink1Description: Datasheet; ComponentLink1URL: http://www.ti.com/general/docs/lit/getliterature.tsp?genericPartNumber=TPS54060&fileType=pdf; ComponentLink2Description: Package Specification; ComponentLink2URL: http://www.ti.com/lit/ml/mpds043e/mpds043e.pdf; ComponentLink3Description: URL Link1; ComponentLink3URL: Samples URL:http://www.ti.com/product/tps54060#samples
footprint DGQ10-1675X1445TP_N (TSSOP, 10-Leads, Body 3x3mm, Pitch 0.5mm, Thermal Pad 1.88x1.57mm, IPC Medium Density)
footprint DGQ10-1675X1445TP_L (TSSOP, 10-Leads, Body 3x3mm, Pitch 0.5mm, Thermal Pad 1.88x1.57mm, IPC High Density)
footprint DGQ10-1675X1445TP_M (TSSOP, 10-Leads, Body 3x3mm, Pitch 0.5mm, Thermal Pad 1.88x1.57mm, IPC Low Density)
pins: 1 BOOT "A bootstrap capacitor is required between BOOT and PH.if the voltage on this capacitor is below the minimum required by the output device, the output is forced to switch off until the capacitor is refreshed.", 2 VIN (power) "Input supply voltage, 3.5 V to 60 V.", 3 EN (in) "Enable pin,internal pull-up current source.Pull below 1.2V to disable. Float to enable. Adjust the input undervoltage lockout with two resistors.", 4 SS/TR (in) "Slow-start and Tracking .AN external capacitor connected to this pin sets the output rise time. Since the voltage on this pin overrides the inernal reference, it can be used for tracking and sequencing.", 5 RT/CLK (in) "Resistor Timing and External Clock. An internal amplifier holds this pin at a fixed voltage when using an external resistor to ground to set the switching frequency. If the pin is pulled above the PLL upper threshold,a mode (See Datasheet)", 6 PWRGD (oc) "An open drain output, asserts low if output voltage is low due to thermal shutdown, dropout, over-voltage or EN shut down.", 7 VSENSE (in) "Inverting node of the transconductance ( gm) error amplifier.", 8 COMP "Error amplifier output,and input to the output switch current comparator. Connect frequency compensation components to this pin.", 9 GND (power) "Ground", 10 PH (power) "The source of the internal high-side power MOSFET.", 11 PP (power) "GND pin must be electrically connected to the exposed pad on the printed circuit board for proper operation."

## TPS54060DRCR
designator U?
Buck Inverting Buck-Boost Step Down Regulator with 3.5 to 60 V Input and 0.8 to 58 V Output, -40 to 150 degC, 10-Pin SON (DRC), Green (RoHS & no Sb/Br); Manufacturer: Texas Instruments; PartNumber: TPS54060DRCR; Duty Cycle(Max)(%): 98; Iout(Max)(A): 0.5; Iq(Typ)(mA): 0.116; Rating: Catalog; Regulated Outputs(#): 1; SubFamily: Step-Down Regulator; Switch Current Limit(Typ)(A): 0.6; Topology: Buck, Inverting Buck-Boost; Vin(Max)(V): 60; Vin(Min)(V): 3.5; Vout(Max)(V): 58; Vout(Min)(V): 0.8; DatasheetVersion: SLVS919A; PackageVersion: revL, Sep-2011; PackageReference: DRC10-2400X1650TP; PackageDescription: 10-Pin Plastic Small Outline No-Lead, 3 x 3 x 1 mm Body, 0.5 mm Pitch, Exposed Pad; Supplier 1: Digi-Key; Supplier Part Number 1: TPS54060DRCR-ND; Eco-Plan: Green (RoHS & no Sb/Br); Mounting Technology: Surface Mount; ComponentLink1Description: Datasheet; ComponentLink1URL: http://www.ti.com/general/docs/lit/getliterature.tsp?genericPartNumber=TPS54060&fileType=pdf; ComponentLink2Description: Package Specification; ComponentLink2URL: http://www.ti.com/litv/pdf/mpds117k; ComponentLink3Description: URL Link1; ComponentLink3URL: Samples URL:http://www.ti.com/product/tps54060#samples
footprint DRC10-2400X1650TP (SON, 10-Leads, Body 3x3mm, Pitch 0.5mm, Thermal Pad 2.4x1.65mm, TI Recommended)
pins: 1 BOOT "A bootstrap capacitor is required between BOOT and PH. If the voltage on this capacitor is below the minimum required by the output device, the output is forced to switch off until the capacitor is refreshed.", 2 VIN (power) "Input supply voltage, 3.5 V to 60 V.", 3 EN (in) "Enable pin, internal pull-up current source. Pull below 1.2V to disable. Float to enable. Adjust the input undervoltage lockout with two resistors.", 4 SS/TR (in) "Slow-start and Tracking. An external capacitor connected to this pin sets the output rise time. Since the voltage on this pin overrides the internal reference, it can be used for tracking and sequencing.", 5 RT/CLK (in) "Resistor Timing and External Clock. An internal amplifier holds this pin at a fixed voltage when using an external resistor to ground to set the switching frequency. If the pin is pulled above the PLL upper threshold,a mode (See Datasheet)", 6 PWRGD (oc) "An open drain output, asserts low if output voltage is low due to thermal shutdown, dropout, over-voltage or EN shut down.", 7 VSENSE (in) "Inverting node of the transconductance ( gm) error amplifier.", 8 COMP "Error amplifier output, and input to the output switch current comparator. Connect frequency compensation components to this pin.", 9 GND (power) "Ground", 10 PH (power) "The source of the internal high-side power MOSFET.", 11 PP (power) "GND pin must be electrically connected to the exposed pad on the printed circuit board for proper operation."

## TPS54060DRCT
designator U?
Buck Inverting Buck-Boost Step Down Regulator with 3.5 to 60 V Input and 0.8 to 58 V Output, -40 to 150 degC, 10-Pin SON (DRC), Green (RoHS & no Sb/Br); Manufacturer: Texas Instruments; PartNumber: TPS54060DRCT; Duty Cycle(Max)(%): 98; Iout(Max)(A): 0.5; Iq(Typ)(mA): 0.116; Rating: Catalog; Regulated Outputs(#): 1; SubFamily: Step-Down Regulator; Switch Current Limit(Typ)(A): 0.6; Topology: Buck, Inverting Buck-Boost; Vin(Max)(V): 60; Vin(Min)(V): 3.5; Vout(Max)(V): 58; Vout(Min)(V): 0.8; DatasheetVersion: SLVS919A; PackageVersion: revL, Sep-2011; PackageReference: DRC10-2400X1650TP; PackageDescription: 10-Pin Plastic Small Outline No-Lead, 3 x 3 x 1 mm Body, 0.5 mm Pitch, Exposed Pad; Supplier 1: Digi-Key; Supplier Part Number 1: 296-27671-2-ND; Eco-Plan: Green (RoHS & no Sb/Br); Mounting Technology: Surface Mount; ComponentLink1Description: Datasheet; ComponentLink1URL: http://www.ti.com/general/docs/lit/getliterature.tsp?genericPartNumber=TPS54060&fileType=pdf; ComponentLink2Description: Package Specification; ComponentLink2URL: http://www.ti.com/litv/pdf/mpds117k; ComponentLink3Description: URL Link1; ComponentLink3URL: Samples URL:http://www.ti.com/product/tps54611#samples
footprint DRC10-2400X1650TP (SON, 10-Leads, Body 3x3mm, Pitch 0.5mm, Thermal Pad 2.4x1.65mm, TI Recommended)
pins: 1 BOOT "A bootstrap capacitor is required between BOOT and PH. If the voltage on this capacitor is below the minimum required by the output device, the output is forced to switch off until the capacitor is refreshed.", 2 VIN (power) "Input supply voltage, 3.5 V to 60 V.", 3 EN (in) "Enable pin, internal pull-up current source. Pull below 1.2V to disable. Float to enable. Adjust the input undervoltage lockout with two resistors.", 4 SS/TR (in) "Slow-start and Tracking. An external capacitor connected to this pin sets the output rise time. Since the voltage on this pin overrides the internal reference, it can be used for tracking and sequencing.", 5 RT/CLK (in) "Resistor Timing and External Clock. An internal amplifier holds this pin at a fixed voltage when using an external resistor to ground to set the switching frequency. If the pin is pulled above the PLL upper threshold,a mode (See Datasheet)", 6 PWRGD (oc) "An open drain output, asserts low if output voltage is low due to thermal shutdown, dropout, over-voltage or EN shut down.", 7 VSENSE (in) "Inverting node of the transconductance ( gm) error amplifier.", 8 COMP "Error amplifier output, and input to the output switch current comparator. Connect frequency compensation components to this pin.", 9 GND (power) "Ground", 10 PH (power) "The source of the internal high-side power MOSFET.", 11 PP (power) "GND pin must be electrically connected to the exposed pad on the printed circuit board for proper operation."

## TPS54062DGKR
designator U?
Buck Step Down Regulator with 4.7 to 60 V Input and 0.8 to 58 V Output, -40 to 125 degC, 8-Pin VSSOP (DGK), Green (RoHS & no Sb/Br); Manufacturer: Texas Instruments; PartNumber: TPS54062DGKR; Duty Cycle(Max)(%): 98; Iout(Max)(A): 0.05; Iq(Typ)(mA): 0.089; Rating: Catalog; Regulated Outputs(#): 1; SubFamily: Step-Down Regulator; Switch Current Limit(Typ)(A): 0.13; Synchronous Rectification: TRUE; Vin(Max)(V): 60; Vin(Min)(V): 4.7; Vout(Max)(V): 58; Vout(Min)(V): 0.8; DatasheetVersion: SLVSAV1B; PackageVersion: revE, May-2006; PackageReference: DGK8; PackageDescription: 8-Pin Thin Small Outline Package 3 x 3 mm Body ,0.65 mm Pitch; Supplier 1: Digi-Key; Supplier Part Number 1: 296-28780-2-ND; Supplier 7: Mouser; Supplier Part Number 7: 595-TPS54062DGKR; Eco-Plan: Green (RoHS & no Sb/Br); Topology: Buck; Mounting Technology: Surface Mount; Code_JEDEC: MO-187-AA; ComponentLink1Description: Datasheet; ComponentLink1URL: http://www.ti.com/general/docs/lit/getliterature.tsp?genericPartNumber=TPS54062&fileType=pdf; ComponentLink2Description: Package Specification; ComponentLink2URL: http://www.ti.com/lit/ml/mpds028d/mpds028d.pdf; ComponentLink3Description: URL Link1; ComponentLink3URL: Samples URL:http://www.ti.com/product/tps54062#samples
footprint DGK8_N (TSOP, 8-Leads, Body 3x3mm, Pitch 0.65mm, IPC Medium Density)
footprint DGK8_L (TSOP, 8-Leads, Body 3x3mm, Pitch 0.65mm, IPC High Density)
footprint DGK8_M (TSOP, 8-Leads, Body 3x3mm, Pitch 0.65mm, IPC Low Density)
pins: 1 BOOT "A bootstrap capacitor is required between BOOT and PH. If the voltage on this capacitor is below the minimum required by the output device, the output is forced to switch off until the capacitor is refreshed.", 2 VIN (power) "Input supply voltage, 4.7 V to 60 V.", 3 EN (in) "Enable pin, internal pull-up current source. Pull below 1.14 V to disable. Float to enable. Adjust the input undervoltage lockout with two resistors.", 4 RT/CLK (in) "Resistor Timing and External Clock. An internal amplifier holds this pin at a fixed voltage when using an external resistor to ground to set the switching frequency. If the pin is pulled above the PLL upper threshold, a (See Datasheet)", 5 VSENSE (in) "Inverting input of the transconductance (gm) error amplifier.", 6 COMP "Error amplifier output, and input to the output switch current comparator. Connect frequency compensation components to this pin.", 7 GND (power) "Ground.", 8 PH (power) "The source of the internal high-side power MOSFET and drain of the internal low side MOSFET."

## TPS54062DRBR
designator U?
Buck Step Down Regulator with 4.7 to 60 V Input and 0.8 to 58 V Output, -40 to 125 degC, 8-Pin SON (DRB), Green (RoHS & no Sb/Br); Manufacturer: Texas Instruments; PartNumber: TPS54062DRBR; Duty Cycle(Max)(%): 98; Iout(Max)(A): 0.05; Iq(Typ)(mA): 0.089; Rating: Catalog; Regulated Outputs(#): 1; SubFamily: Step-Down Regulator; Switch Current Limit(Typ)(A): 0.13; Synchronous Rectification: TRUE; Vin(Max)(V): 60; Vin(Min)(V): 4.7; Vout(Max)(V): 58; Vout(Min)(V): 0.8; DatasheetVersion: SLVSAV1B; PackageVersion: revK, Jun-2012; PackageReference: DRB8-2400X1650TP; PackageDescription: 8-Pin Plastic Small Outline No-Lead, 3 x 3 x 1 mm Body, 0.65 mm Pitch, Exposed Pad; Supplier 1: Digi-Key; Supplier Part Number 1: TPS54062DRBR-ND; Eco-Plan: Green (RoHS & no Sb/Br); Topology: Buck; Mounting Technology: Surface Mount; ComponentLink1Description: Datasheet; ComponentLink1URL: http://www.ti.com/general/docs/lit/getliterature.tsp?genericPartNumber=TPS54062&fileType=pdf; ComponentLink2Description: Package Specification; ComponentLink2URL: http://www.ti.com/litv/pdf/mpds118h; ComponentLink3Description: URL Link1; ComponentLink3URL: Samples URL:http://www.ti.com/product/tps54062#samples
footprint DRB8-2400X1650TP (SON, 8-Leads, Body 3x3mm, Pitch 0.65mm, Thermal Pad 2.4x1.65mm, TI Recommended)
pins: 1 BOOT "A bootstrap capacitor is required between BOOT and PH. If the voltage on this capacitor is below the minimum required by the output device, the output is forced to switch off until the capacitor is refreshed.", 2 VIN (power) "Input supply voltage, 4.7 V to 60 V.", 3 EN (in) "Enable pin, internal pull-up current source. Pull below 1.14 V to disable. Float to enable. Adjust the input undervoltage lockout with two resistors, see the Enable and Adjusting Undervoltage Lockout section", 4 RT/CLK (in) "Resistor Timing and External Clock. An internal amplifier holds this pin at a fixed voltage when using an external resistor to ground to set the switching frequency. If the pin is pulled above the PLL upper threshold, a mode (See Datasheet)", 5 VSENSE (in) "Inverting input of the transconductance (gm) error amplifier.", 6 COMP "Error amplifier output, and input to the output switch current comparator. Connect frequency compensation components to this pin.", 7 GND (power) "Ground", 8 PH (power) "The source of the internal high-side power MOSFET and drain of the internal low side MOSFET", 9 TP (power) "GND pin must be electrically connected to the exposed pad on the printed circuit board for proper operation."